# EAGLE library part STM32L452RET6 (library mod_eagle_library_MCU_CPU)
STM32L452RET6
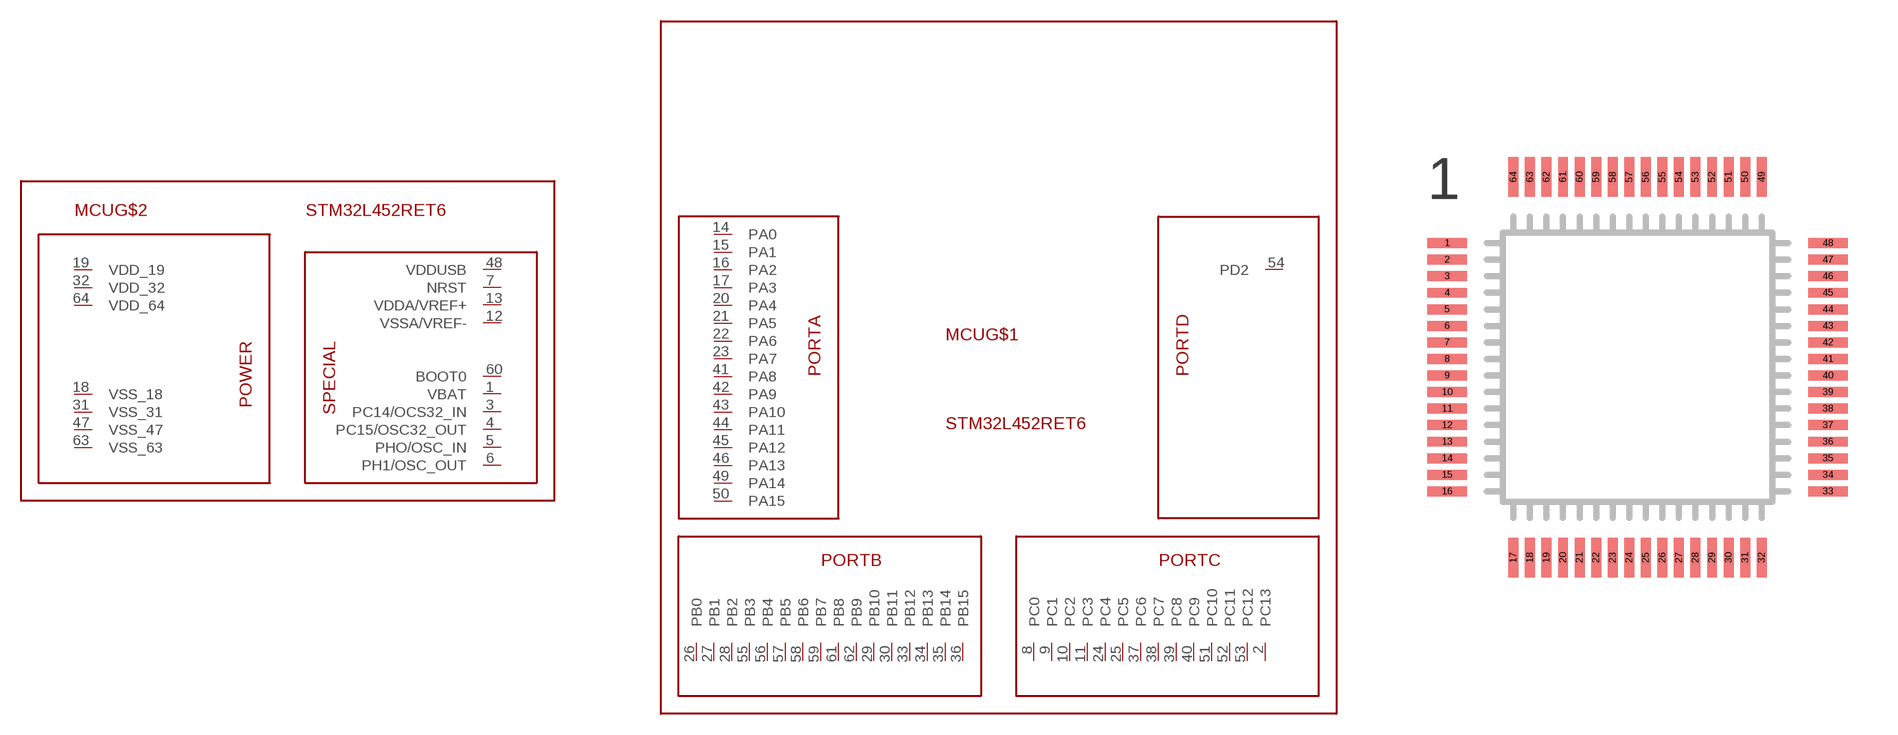
[diagram p0: symbol with the pads of LQFP64; footprint LQFP64]

Designator prefix MCU; gates G$1=STM32L452RET6_PORTS G$2=STM32L452RET6_POWER

## STM32L452RET6  [LQFP64]
1  G$2:VBAT
2  G$1:PC13
3  G$2:PC14/OCS32_IN
4  G$2:PC15/OSC32_OUT
5  G$2:PHO/OSC_IN
6  G$2:PH1/OSC_OUT
7  G$2:NRST
8  G$1:PC0
9  G$1:PC1
10  G$1:PC2
11  G$1:PC3
12  G$2:VSSA/VREF-
13  G$2:VDDA/VREF+
14  G$1:PA0
15  G$1:PA1
16  G$1:PA2
17  G$1:PA3
18  G$2:VSS_18
19  G$2:VDD_19
20  G$1:PA4
21  G$1:PA5
22  G$1:PA6
23  G$1:PA7
24  G$1:PC4
25  G$1:PC5
26  G$1:PB0
27  G$1:PB1
28  G$1:PB2
29  G$1:PB10
30  G$1:PB11
31  G$2:VSS_31
32  G$2:VDD_32
33  G$1:PB12
34  G$1:PB13
35  G$1:PB14
36  G$1:PB15
37  G$1:PC6
38  G$1:PC7
39  G$1:PC8
40  G$1:PC9
41  G$1:PA8
42  G$1:PA9
43  G$1:PA10
44  G$1:PA11
45  G$1:PA12
46  G$1:PA13
47  G$2:VSS_47
48  G$2:VDDUSB
49  G$1:PA14
50  G$1:PA15
51  G$1:PC10
52  G$1:PC11
53  G$1:PC12
54  G$1:PD2
55  G$1:PB3
56  G$1:PB4
57  G$1:PB5
58  G$1:PB6
59  G$1:PB7
60  G$2:BOOT0
61  G$1:PB8
62  G$1:PB9
63  G$2:VSS_63
64  G$2:VDD_64

## Footprint LQFP64 (pad centres in mm)
smd 1.2 x 0.3: 1 -5.75,3.75; 2 -5.75,3.25; 3 -5.75,2.75; 4 -5.75,2.25; 5 -5.75,1.75; 6 -5.75,1.25; 7 -5.75,0.75; 8 -5.75,0.25; 9 -5.75,-0.25; 10 -5.75,-0.75; 11 -5.75,-1.25; 12 -5.75,-1.75; 13 -5.75,-2.25; 14 -5.75,-2.75; 15 -5.75,-3.25; 16 -5.75,-3.75; 33 5.75,-3.75; 34 5.75,-3.25; 35 5.75,-2.75; 36 5.75,-2.25; 37 5.75,-1.75; 38 5.75,-1.25; 39 5.75,-0.75; 40 5.75,-0.25; 41 5.75,0.25; 42 5.75,0.75; 43 5.75,1.25; 44 5.75,1.75; 45 5.75,2.25; 46 5.75,2.75; 47 5.75,3.25; 48 5.75,3.75
smd 0.3 x 1.2: 17 -3.75,-5.75; 18 -3.25,-5.75; 19 -2.75,-5.75; 20 -2.25,-5.75; 21 -1.75,-5.75; 22 -1.25,-5.75; 23 -0.75,-5.75; 24 -0.25,-5.75; 25 0.25,-5.75; 26 0.75,-5.75; 27 1.25,-5.75; 28 1.75,-5.75; 29 2.25,-5.75; 30 2.75,-5.75; 31 3.25,-5.75; 32 3.75,-5.75; 49 3.75,5.75; 50 3.25,5.75; 51 2.75,5.75; 52 2.25,5.75; 53 1.75,5.75; 54 1.25,5.75; 55 0.75,5.75; 56 0.25,5.75; 57 -0.25,5.75; 58 -0.75,5.75; 59 -1.25,5.75; 60 -1.75,5.75; 61 -2.25,5.75; 62 -2.75,5.75; 63 -3.25,5.75; 64 -3.75,5.75